# EAGLE library part ATF16V8CZ-15PU (library trafshlib)
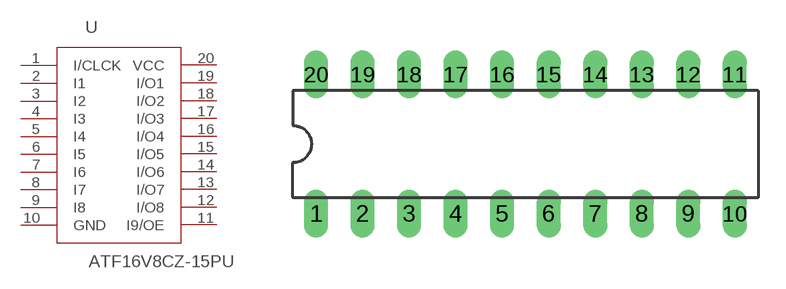
[diagram p0: symbol with the pads of DIL20; footprint DIL20]

Designator prefix U

## ATF16V8CZ-15PU  [DIL20]
1  I/CLCK  in
2  I1
3  I2
4  I3
5  I4
6  I5
7  I6
8  I7
9  I8
10  GND  pwr
11  I9/OE
12  I/O8
13  I/O7
14  I/O6
15  I/O5
16  I/O4
17  I/O3
18  I/O2
19  I/O1
20  VCC  pwr

## Footprint DIL20 (pad centres in mm)
Dual In Line Package
drill 0.813 long: 1 -11.43,-3.81; 2 -8.89,-3.81; 3 -6.35,-3.81; 4 -3.81,-3.81; 5 -1.27,-3.81; 6 1.27,-3.81; 7 3.81,-3.81; 8 6.35,-3.81; 9 8.89,-3.81; 10 11.43,-3.81; 11 11.43,3.81; 12 8.89,3.81; 13 6.35,3.81; 14 3.81,3.81; 15 1.27,3.81; 16 -1.27,3.81; 17 -3.81,3.81; 18 -6.35,3.81; 19 -8.89,3.81; 20 -11.43,3.81